# Altium footprint library Jump.PcbLib: 1 footprints
Each footprint in its own frame and in the unit in brackets; x right, y up, seen from the top. Pads: shape width x height; smd on the part's side, far side on the other; paste and mask are expansions set on the pad; w line width, h text height; cw(c..) or ccw(c..) is an arc to the next point about the centre after c.
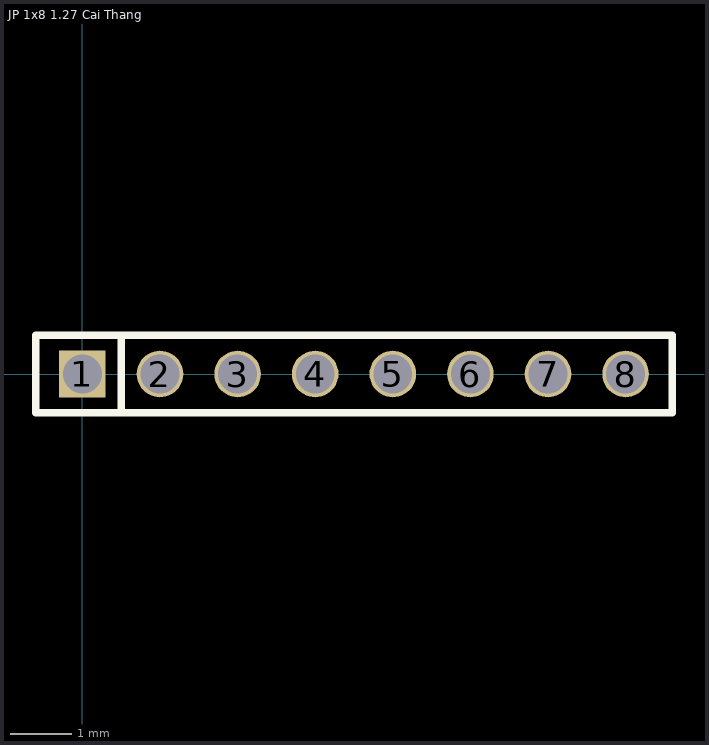
[diagram p0: the footprint, top view; thin cyan lines are the x and y axes]

## JP 1x8 1.27 Cai Thang [mil]
pads (8):
  rect 30x30 hole 25: 1(0,0)
  round 30 hole 25: 2(50,0) 3(100,0) 4(150,0) 5(200,0) 6(250,0) 7(300,0) 8(350,0)
Top Overlay:
  lines w5: 25,-25 25,25 ; -30,-25 380,-25 380,25 -30,25 -30,-25
3D body "User Library-Header _Fem_1X8.STEP": height 167.92, standoff -62.39, extent -29.92,-25 379.92,25